# Altium footprint library syhaunguyen.PcbLib: 329 footprints (part 13 of 21)
Each footprint in its own frame and in the unit in brackets; x right, y up, seen from the top. Pads: shape width x height; smd on the part's side, far side on the other; paste and mask are expansions set on the pad; w line width, h text height; cw(c..) or ccw(c..) is an arc to the next point about the centre after c.
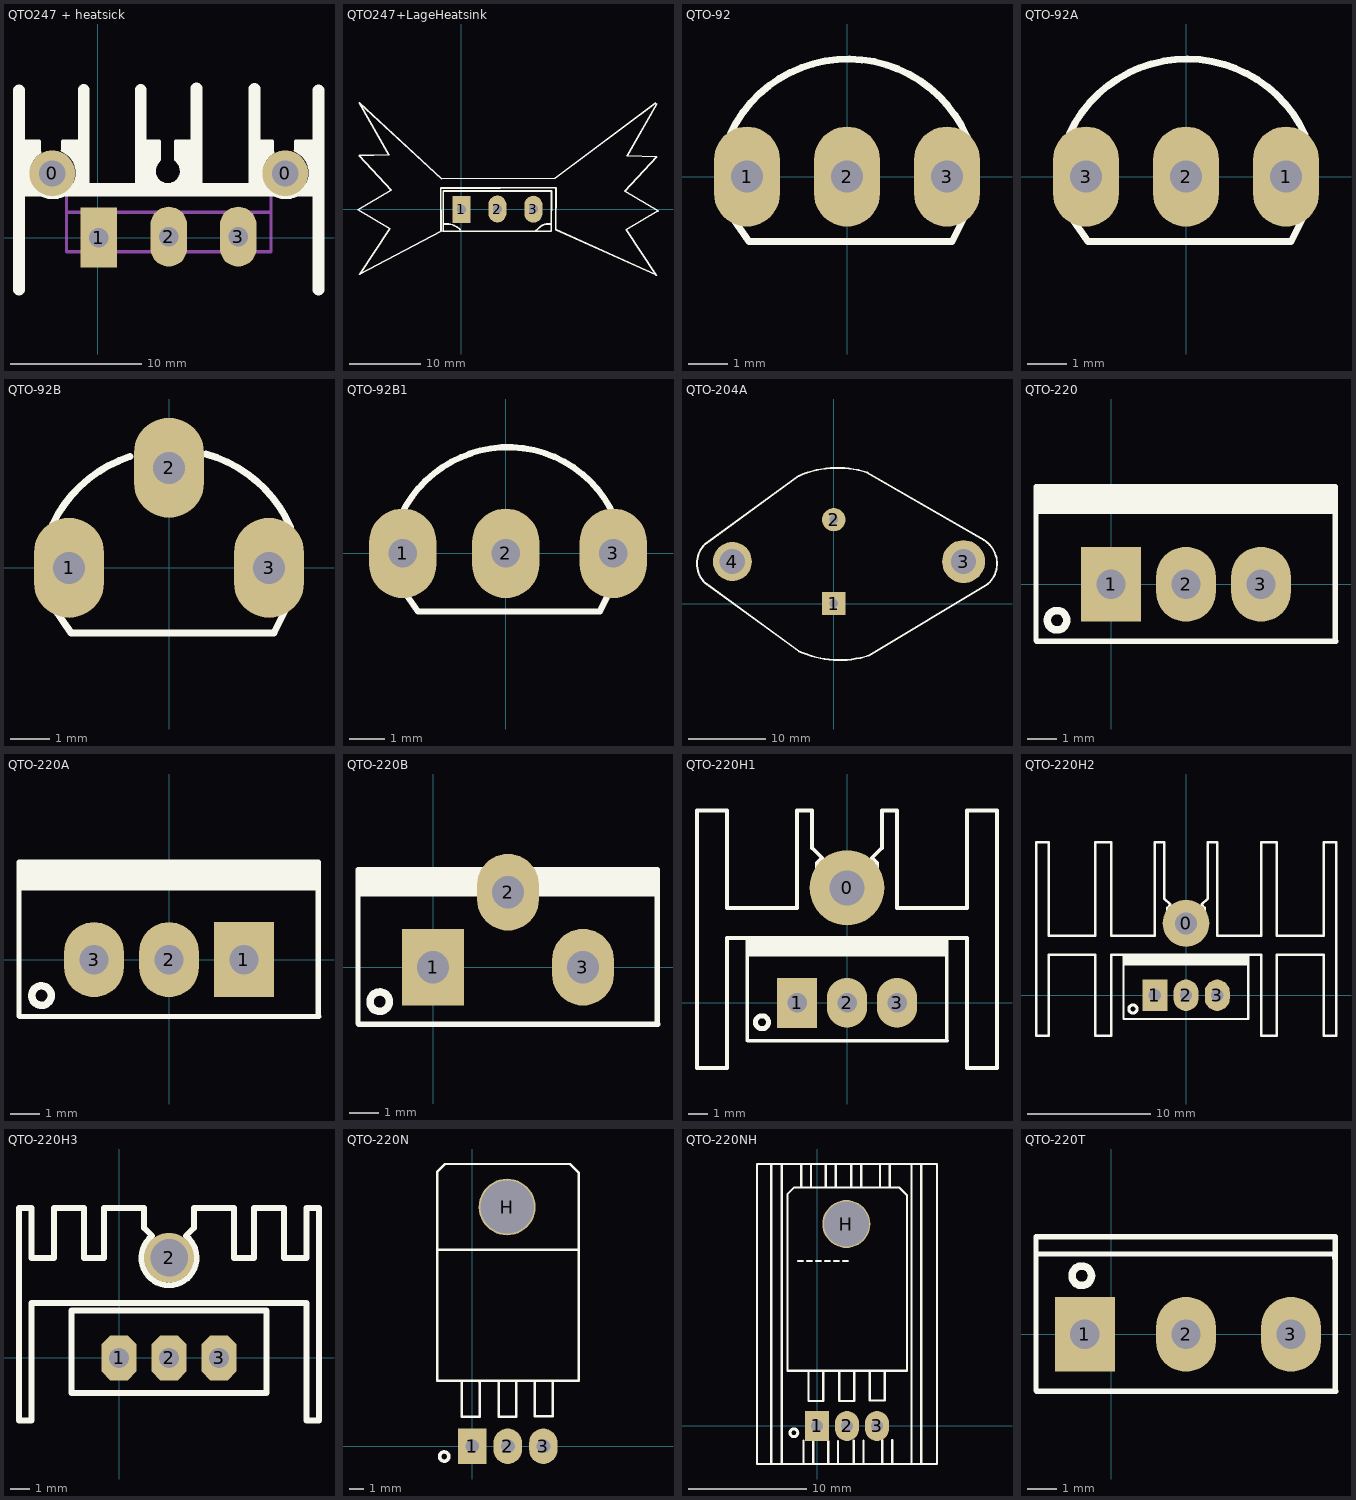
[diagram p12: the footprints below, top view; thin cyan lines are the x and y axes]

## QTO247 + heatsick [mil]
pads (5):
  round 137.8 hole 78.74: 0(-136.34,194) 0(563.66,194)
  rect 110x180 hole 59.06: 1(3,1)
  oval 110x180 hole 59.06: 2(213.66,4) 3(422.32,4)
Top Overlay:
  region: 230,290 290,290 290,150 280,160 230,160 250,180 250,220 230,240
  region: 140,290 190,290 190,240 170,220 170,180 190,160 140,160
  region: -105,290 -105,265 -85,245 -80,245 -70,235 -70,225 -65,220 -65,160 -40,160 -35,165 -50,180 -50,290
  region: -225,290 -175,290 -175,255 -180,255 -200,235 -200,225 -210,215 -210,180 -205,175 -205,160 -225,160
  region: 475,290 525,290 525,255 520,255 500,235 500,225 490,215 490,180 495,175 495,160 475,160
  region: 595,290 595,265 615,245 620,245 630,235 630,225 635,220 635,160 660,160 665,165 650,180 650,290
  lines w10: -225,290 -175,290 -175,260 ; -173.69,257.87 ccw(c-135,195) -105.92,262.86 ; -163.31,220 ccw(c-134.15,190.85) -105,220 ; -105,265 -105,290 -55,290 ; 130,290 185,290 185,235 180,230 ; 181.96,229.73 ccw(c210.85,200.85) 239.73,229.73 ; 240,230 235,235 235,290 280,290 ; 475,290 525,290 525,260 ; 526.31,257.87 ccw(c565,195) 594.08,262.86 ; 595,265 595,290 645,290
  lines w35: -236.34,-156 -236.34,444 ; -42,149 -42,445 ; 129,149 129,445 ; 297,148 297,450 ; 471,148 471,448 ; 663.66,-156 663.66,444
  lines w40: -230,145 655,145
Mechanical 1:
  lines w10: -93.43,76.83 520.75,76.83 ; -93.43,-41.28 520.75,-41.28 520.75,135.89 -93.43,135.89 -93.43,-41.28
3D body: height 940.6, standoff -479.4, extent -92,-73 508,107
3D body: height 1206.11, standoff 0.6, extent -252.79,-166.67 648.79,479

## QTO247+LageHeatsink [mil]
pads (3):
  rect 100x150 hole 50: 1(0,-1)
  oval 100x150 hole 50: 2(200,1) 3(400,0)
Top Overlay:
  lines w10: -102,-121 -101,-120 -101,102 501,102 500,-122 -101,-122 -100,-121 ; -100,-82 -80.43,-82 cw(c-80.43,-184.43) -8,-112 ; 208,119 526,119 524,-113 1082,-364 ; 214,118 -115,118 -113,-122 -566,-361 -398,-108 -575,-3 -391,106 -568,298 -403,303 -568,592 -111,170 520,172 1078,590 ; 415,-119 ccw(c415,-116.59) 416.71,-118.29 434,-101 cw(c479.87,-146.87) 479.87,-82 499,-82 ; 1084,-367 916,-114 1093,-9 909,100 1086,292 921,297 1086,586
3D body: height 1100, standoff 100, extent -619,-329 1031,633
3D body: height 1006.77, standoff -610.16, extent -108.98,-107 518.98,91.03

## QTO-92 [mil] "TO-92"
height 200
pads (3):
  oval 66x100 hole 32: 1(-100,0) 2(0,0) 3(100,0)
Top Overlay:
  lines w7: -116.52,43.21 cw(c0.97,-12.43) 119.94,39.97 ; -115.34,-40.24 -98,-65 105,-65 118,-39
3D body: height 245.04, standoff -199.79, extent -108.87,-65.56 108.86,95

## QTO-92A [mil] "TO-92"
height 200
pads (3):
  oval 66x100 hole 32: 1(100,0) 2(0,0) 3(-100,0)
Top Overlay:
  lines w7: -116.52,43.21 cw(c0.97,-12.43) 119.08,41.88 ; -115.34,-40.24 -98,-65 105,-65 118,-39
3D body: height 245.04, standoff -199.79, extent -110,-60.56 107.73,100

## QTO-92B [mil] "TO-92"
height 200
pads (3):
  oval 70x100 hole 32: 1(-100,0) 2(0,100) 3(100,0)
Top Overlay:
  lines w7: -116.52,43.21 cw(c0.97,-12.43) -38.82,111.34 ; -115.34,-40.24 -98,-65 105,-65 118,-39 ; 36.81,113.84 cw(c2.42,-11.53) 121.49,40.65

## QTO-92B1 [mil] "TO-92"
height 200
pads (3):
  oval 75x100 hole 32: 1(-115,0) 2(0,0) 3(120,0)
Top Overlay:
  lines w7: -116.52,43.21 cw(c0.97,-12.43) -38.82,111.34 ; -115.34,-40.24 -98,-65 105,-65 118,-39 ; -40.42,111.21 cw(c2.42,-11.53) 121.49,40.65
3D body: height 245.04, standoff -199.79, extent -112.74,-65.56 105,95

## QTO-204A [mil] "Pin For 2N3055, 2N2955"
pads (4):
  rect 120x120 hole 45: 1(0,0)
  round 120 hole 45: 2(0,430)
  round 220 hole 130: 3(665,215)
  round 200 hole 130: 4(-520,215)
Top Overlay:
  lines w10: -660,105 cw(c-560,205) -660,305 -179.46,654.16 ; -659.88,104.89 -178.69,-244.72 ; -179.53,654.34 cw(c18.37,195.17) 171.59,671.11 ; -178.9,-245.19 ccw(c28.37,209.83) 180.47,-266.47 ; 171.46,670.71 769.34,325.52 ; 180.28,-266.15 789.88,100.13 ccw(c695,205) 769.25,325.36

## QTO-220 [mil] "TO-220 - 1-2-3"
height 200
pads (3):
  rect 80x100 hole 39: 1(0,0)
  oval 80x100 hole 39: 2(100,0) 3(200,0)
Top Overlay:
  circle w10: c-72.03,-48 r12.97
  rectangle: -99,94 300,130
  lines w7: 298,107 299,93 ; -100,-75 -99,-76 -76,-76 300,-76 299,-75 299,130 -100,130 -100,-75
3D body: height 754.72, standoff -400, extent -119,-64 322.46,120.65

## QTO-220A [mil] "TO-220 - 3-2-1"
height 200
pads (3):
  rect 80x100 hole 39: 1(100,0)
  oval 80x100 hole 39: 2(0,0) 3(-100,0)
Top Overlay:
  circle w10: c-170.03,-48 r12.97
  rectangle: -200,92 199,131
  lines w7: 198,107 199,93 ; -200,-75 -200,130 199,130 199,-75 200,-76 -176,-76 -199,-76 -200,-75
3D body: height 760.24, standoff -372.83, extent -194.89,-81 194.88,96.16

## QTO-220B [mm] "TO-220 - 1-2-3"
height 5.08
pads (3):
  rect 2.1x2.6 hole 1.1: 1(0,0)
  oval 2.1x2.6 hole 1.1: 2(2.54,2.54) 3(5.08,0)
Top Overlay:
  circle w0.254: c-1.804,-1.168 r0.329
  rectangle: -2.515,2.388 7.62,3.302
  lines w0.178: 7.569,2.718 7.595,2.362 ; -2.54,-1.905 -2.515,-1.93 -1.93,-1.93 7.62,-1.93 7.595,-1.905 7.595,3.302 -2.54,3.302 -2.54,-1.905
3D body: height 20.58, standoff -8.2, extent -2.356,-2.062 7.544,2.438

## QTO-220H1 [mil] "TO-220 - 1-2-3"
height 200
pads (4):
  round 150 hole 70: 0(0,230)
  rect 80x100 hole 39: 1(-100,0)
  oval 80x100 hole 39: 2(0,0) 3(100,0)
Top Overlay:
  circle w10: c-170.03,-39 r12.97
  rectangle: -201,93 198,129
  lines w7: -200,100 198.5,100 199,93 ; -200,-75 -199,-76 -176,-76 200,-76 199,-75 199,130 -200,130 -200,-75
  lines w8: -300,-130 -300,385 -240,385 -240,190 -100,190 -100,385 -70,385 -70,310 -50,290 -60,280 -60,210 -40,190 40,190 60,210 60,280 50,290 70,310 70,385 100,385 100,190 240,190 240,385 300,385 300,-130 240,-130 240,130 -240,130 -240,-130 -300,-130
3D body: height 1000, standoff -122.05, extent -246,73.03 250.06,328.97
3D body: height 850.24, standoff -282.83, extent -194.88,-82 194.88,95.17

## QTO-220H2 [mil] "TO-220 - 1-2-3"
height 200
pads (4):
  round 150 hole 70: 0(0,230)
  rect 80x100 hole 39: 1(-100,0)
  oval 80x100 hole 39: 2(0,0) 3(100,0)
Top Overlay:
  circle w10: c-169.97,-44 r12.97
  rectangle: -201,95 198,131
  lines w7: -200,100 198.5,100 199,93 ; -200,-75 -199,-76 -176,-76 200,-76 199,-75 199,130 -200,130 -200,-75
  lines w8: -480,-130 -480,490 -440,490 -440,190 -290,190 -290,490 -240,490 -240,190 -100,190 -100,490 -70,490 -70,310 -50,290 -60,280 -60,210 -40,190 40,190 60,210 60,280 50,290 70,310 70,490 100,490 100,190 240,190 240,490 290,490 290,190 440,190 440,490 480,490 480,-130 440,-130 440,130 290,130 290,-130 240,-130 240,130 -240,130 -240,-130 -290,-130 -290,130 -440,130 -440,-130 -480,-130
3D body: height 810.24, standoff -322.83, extent -194.76,-82.17 195,95
3D body: height 1205.51, standoff 0, extent -448.79,-177 452.79,468.67

## QTO-220H3 [mil] "TO-220 1-2-3"
pads (4):
  oct 70x90 hole 40: 1(0,0) 2(100,0) 3(200,0)
  round 100 hole 75: 2(100,200)
Top Overlay:
  lines w12: 66,244 50,260 50,300 -30,300 -30,200 -70,200 -70,300 -130,300 -130,200 -175,200 -175,300 -200,300 -200,-125 -175,-125 -175,110 375,110 375,-125 400,-125 400,300 375,300 375,200 330,200 330,300 270,300 270,200 230,200 230,300 150,300 150,260 133.59,243.59 ; 66.37,243.52 ccw(c100,200) 133.77,243.41 ; -95,-70 295,-70 295,95 -95,95 -95,-70
3D body: height 322.83, standoff -810.24, extent -96.88,-76.17 292.88,101
3D body: height 984.25, standoff -149.61, extent -189.97,-102.25 391.97,323

## QTO-220N [mil] "TO-220 - 1-2-3"
height 200
pads (4):
  rect 80x100 hole 39: 1(0,0)
  oval 80x100 hole 39: 2(100,0) 3(200,0)
  round 160 hole 150: H(98,673)
Top Overlay:
  circle w10: c-79.03,-29 r12.97
  lines w7: -99,549 -99,772 -77,794 275,794 300,769 300,730 ; -99,552 -99,184 300,184 300,553 -98,553 ; -29,178 -29,83 21,83 21,180 20,181 ; 74,178 74,83 124,83 124,180 123,181 ; 176,180 176,85 226,85 226,182 225,183 ; 300,552 300,733
3D body: height 121, standoff -160, extent -48,-10.31 252,792.31

## QTO-220NH [mil] "TO-220 - 1-2-3"
height 200
pads (4):
  rect 80x100 hole 39: 1(0,0)
  oval 80x100 hole 39: 2(100,0) 3(200,0)
  round 160 hole 150: H(98,673)
Top Overlay:
  circle w10: c-77.03,-23 r12.97
  lines w7: -99,549 -99,772 -77,794 275,794 300,769 300,730 ; -99,552 -99,184 300,184 300,553 ; -29,178 -29,83 21,83 21,180 20,181 ; 74,178 74,83 124,83 124,180 123,181 ; 176,180 176,85 226,85 226,182 225,183 ; 300,552 300,733
  lines w8: -152,-127 -152,873 ; -117,-127 -117,873 ; -53,796 -53.01,869.97 ; -45,-124 -45.01,-50.03 ; -20,796 -20.01,869.97 ; -12,-124 -12.01,-50.03 ; 29,795 28.99,868.97 ; 37,-125 36.99,-51.03 ; 62,795 61.99,868.97 ; 70,-125 69.99,-51.03 ; 114,796 113.99,869.97 ; 122,-124 121.99,-50.03 ; 147,796 146.99,869.97 ; 155,-124 154.99,-50.03 ; 210,798 209.99,871.97 ; 218,-122 217.99,-48.03 ; 243,798 242.99,871.97 ; 251,-122 250.99,-48.03 ; 315,-127 315,873 ; 348,-127 348,873 ; -200,-127 -200,873 400,873 400,-127 -200,-127
  text "------" at -69,527 h60
3D body: height 165.35, standoff -118.11, extent -100,-3.66 300,763.66

## QTO-220T [mil] "TO-220 - 1-2-3"
height 200
pads (3):
  rect 80x100 hole 39: 1(-35,0)
  oval 80x100 hole 39: 2(100,0) 3(240,0)
Top Overlay:
  circle w10: c-38.97,78 r12.97
  lines w7: -100,107 298,107 299,93 ; -100,-75 -99,-76 -76,-76 300,-76 299,-75 299,130 -100,130 -100,-75
3D body: height 622.65, standoff -393.1, extent -103.76,-69 301.76,108.16